# Altium schematic symbol library NumatoShield.SchLib: 2 symbols
Pins are listed as number, name and electrical type; pins without a type are passive.

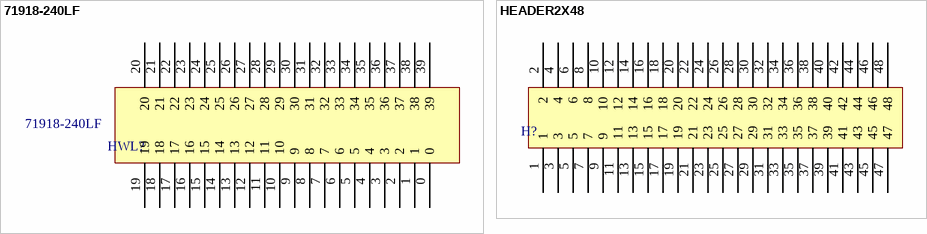
[diagram p0: symbols 71918-240LF to HEADER2X48]

## 71918-240LF
designator HWL?  Manufacturer Part Number: 71918-240LF  (hidden comment: *)
CONN HEADER 40POS DUAL VERT PCB; Manufacturer: FCI; Connector Type: Header, Shrouded; Number of Positions: 40; Number of Positions Loaded: All; Pitch: 0.100" (2.54mm); Supplier 1: Digi-Key; RoHS: RoHS Compliant; Stock 1: 126; Pricing 1: 1=1.85, 10=1.677, 50=1.5054, 100=1.437, 250=1.30016, 500=1.19752, 1000=1.02645, 2500=0.95802, 5000=0.91012 (USD); Packaging: Tube; Contact Type: Male Pin; Number of Rows: 2; Row Spacing: 0.100" (2.54mm); Contact Mating Length: 0.228" (5.80mm); Mounting Type: Through Hole; Termination: Solder; Fastening Type: Latch Lock/Eject Hooks; Features: Mounting Flange; Contact Finish: Gold, GXT™; Contact Finish Thickness: 30µin (0.76µm); Color: Gray; ComponentLink1URL: http://portal.fciconnect.com/Comergent//fci/drawing/71918.pdf; ComponentLink1Description: http://portal.fciconnect.com/Comergent//fci/drawing/71918.pdf; Supplier Part Number 1: 609-4497-ND; Category: Connectors, Interconnects
footprint HWL_FP
pins: 0, 1, 2, 3, 4, 5, 6, 7, 8, 9, 10, 11, 12, 13, 14, 15, 16, 17, 18, 19, 20, 21, 22, 23, 24, 25, 26, 27, 28, 29, 30, 31, 32, 33, 34, 35, 36, 37, 38, 39

## HEADER2X48
designator H?  (value not drawn)
footprint H_FP
pins: 1, 2, 3, 4, 5, 6, 7, 8, 9, 10, 11, 12, 13, 14, 15, 16, 17, 18, 19, 20, 21, 22, 23, 24, 25, 26, 27, 28, 29, 30, 31, 32, 33, 34, 35, 36, 37, 38, 39, 40, 41, 42, 43, 44, 45, 46, 47, 48